# EAGLE library part PS700 (library microchip2)
Battery Monitor
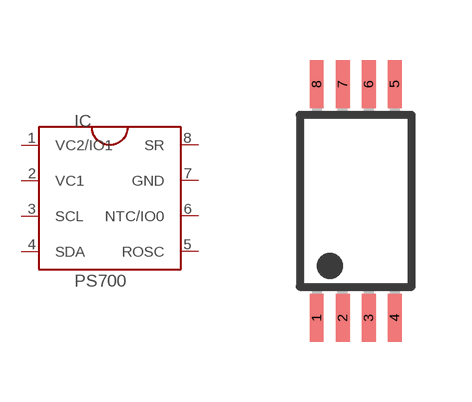
[diagram p191: symbol with the pads of TSSOP8; footprint TSSOP8]

Designator prefix IC

## PS700  [TSSOP8]
1  VC2/IO1  in
2  VC1  in
3  SCL  in
4  SDA
5  ROSC
6  NTC/IO0
7  GND  pwr
8  SR  in

## Footprint TSSOP8 (pad centres in mm)
Thin Shrink Small Outline Package package type ST
smd 0.35 x 1.2: 1 -0.975,-2.925; 2 -0.325,-2.925; 3 0.325,-2.925; 4 0.975,-2.925; 5 0.975,2.925; 6 0.325,2.925; 7 -0.325,2.925; 8 -0.975,2.925